# EAGLE library part MPU-6000 (library SparkFun-Sensors)
Invensense MPU-6000 6-Axis Gryoscope/Accelerometer 3-axis gyroscope, 3-axis accelerometer in a 4x4 package. The MPU-6000 is the world’s first 6-axis I²C MotionTracking device designed for the low power, low cost, and high performance requirements of smartphones, tablets and wearable sensors. Datasheet <http://cdn.sparkfun.com/datasheets/Components/General%20IC/PS-MPU-6000A.pdf> SparkFun Products MPU-6000 - Motion Processing Unit <https://www.sparkfun.com/products/11234> (SEN-11234) SparkFun UDB5 - PIC UAV Development Board <https://www.sparkfun.com/products/11703> (GPS-11703)
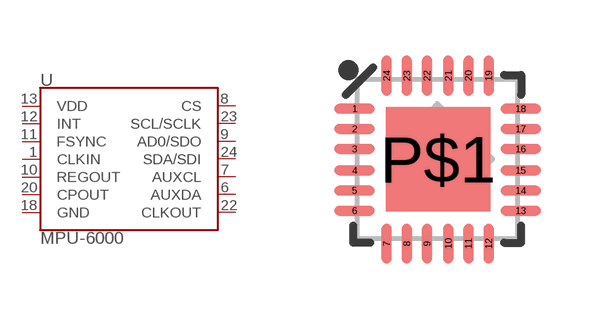
[diagram p61: symbol with the pads of QFN-24-EP; footprint QFN-24-EP]

Designator prefix U

## MPU-6000 (PROD_ID: IC-11089; SF_ID: SEN-11234)  [QFN-24-EP]
1  CLKIN
6  AUXDA
7  AUXCL
8  CS
9  AD0/SDO
10  REGOUT
11  FSYNC
12  INT
13  VDD
18  GND
20  CPOUT
22  CLKOUT
23  SCL/SCLK
24  SDA/SDI

## Footprint QFN-24-EP (pad centres in mm)
24-Pin QFN w/ Center Pad (4 x 4 mm) Datasheet <http://cdn.sparkfun.com/datasheets/Components/General%20IC/PS-MPU-6000A.pdf> Specifications: Pin Count: 24 Area: 4.0 x 4.0 x 0.90 mm Pitch: 0.5 mm Devices Using: MPU-6000
smd 1.016 x 0.254: 1 -2.066,1.257; 2 -2.066,0.75; 3 -2.066,0.247; 4 -2.066,-0.287; 5 -2.066,-0.792; 6 -2.066,-1.297; 13 2.086,-1.297; 14 2.086,-0.792; 15 2.086,-0.287; 16 2.086,0.247; 17 2.086,0.75; 18 2.086,1.257
smd 0.254 x 1.016: 7 -1.267,-2.122; 8 -0.762,-2.122; 9 -0.258,-2.122; 10 0.278,-2.122; 11 0.78,-2.122; 12 1.287,-2.122; 19 1.287,2.082; 20 0.78,2.082; 21 0.278,2.082; 22 -0.258,2.082; 23 -0.762,2.082; 24 -1.267,2.082
smd 2.616 x 2.616: P$1 0.02,-0.01